# Altium schematic symbol library ERA6ARB102P.SchLib: 1 symbol
Pins are listed as number, name and electrical type; pins without a type are passive.

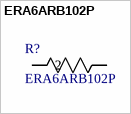
[diagram p0: symbol ERA6ARB102P]

## ERA6ARB102P
designator R?
Description; Manufacturer_Name: Panasonic; Copyright: Copyright (C) 2025 Ultra Librarian. All rights reserved.; Manufacturer_Part_Number: ERA6ARB102P
footprint RES_ERA6A_0805_PAN
pins: 1, 2